# Altium schematic symbol library MMSZ5234BT1G.SchLib: 2 symbols
Pins are listed as number, name and electrical type; pins without a type are passive.

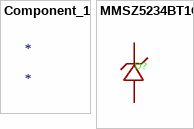
[diagram p0: symbols Component_1 to MMSZ5234BT1G]

## Component_1
designator *

## MMSZ5234BT1G
designator D?  (value not drawn)
Independent Type 5.89V~6.51V 500mW 6.2V SOD-123 Zener Diodes ROHS; Manufacturer: onsemi(安森美); Add into BOM: yes; Reverse Leakage Current (Ir): 5uA@4V; Impedance(Zzt): 7Ω; Symbol: MMSZ5234BT1G; Device: MMSZ5234BT1G; LCSC Part Name: MMSZ5234BT1G; Supplier Part: C194181; Manufacturer Part: MMSZ5234BT1G; Supplier Footprint: SOD-123; JLCPCB Part Class: Extended Part; Datasheet: https://atta.szlcsc.com/upload/public/pdf/source/20221020/24E30AC3B161AD81AE78606E4A7F6AC2.pdf; Supplier: LCSC; Convert to PCB: yes; Diode Configuration: Independent Type; Zener Voltage(Nom): 6.2V; Zener Voltage(Range): 5.89V~6.51V; Pd - Power Dissipation(Pd): 500mW
footprint SOD-123_L2.8-W1.8-LS3.7-RD
3D model SOD-123_L2.8-W1.8-LS3.7-RD
pins: 1 C, 2 A